# Altium footprint library PCB-sl13nw6fpl4rim5mrg3x-1.PcbLib: 1 footprints
Each footprint in its own frame and in the unit in brackets; x right, y up, seen from the top. Pads: shape width x height; smd on the part's side, far side on the other; paste and mask are expansions set on the pad; w line width, h text height; cw(c..) or ccw(c..) is an arc to the next point about the centre after c.
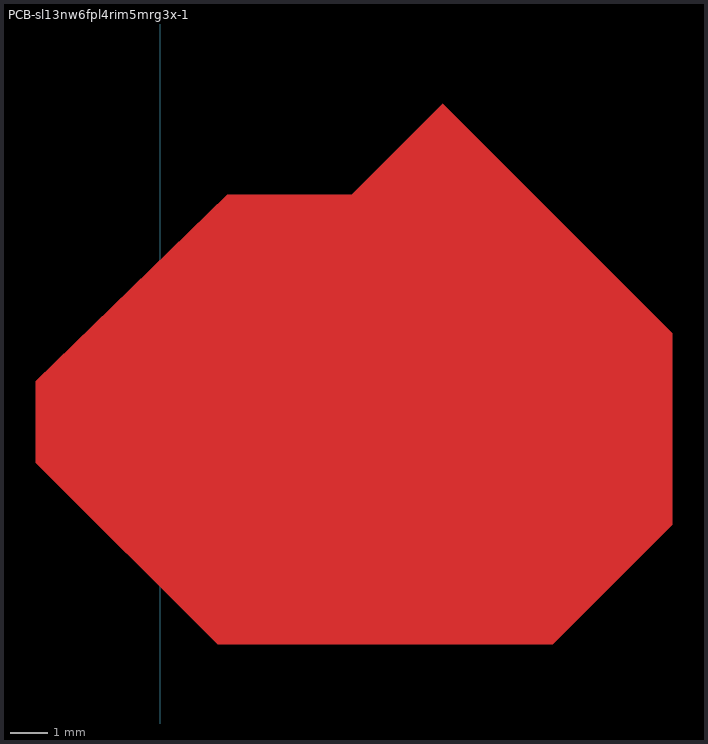
[diagram p0: the footprint, top view; thin cyan lines are the x and y axes]

## PCB-sl13nw6fpl4rim5mrg3x-1 [mm]
Top Layer:
  region: 1.778,16.002 5.08,16.002 7.493,18.415 13.589,12.319 13.589,7.239 10.414,4.064 1.524,4.064 -3.302,8.89 -3.302,11.049